# Altium schematic symbol library SCH - POWER - MODULE - MEANWELL IRM-10.SCHLIB: 1 symbol
Pins are listed as number, name and electrical type; pins without a type are passive.

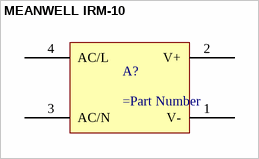
[diagram p0: symbol MEANWELL IRM-10]

## MEANWELL IRM-10
designator A?
pins: 1 V-, 2 V+, 3 AC/N, 4 AC/L